# EAGLE library part TB6612FNG (library systas0)
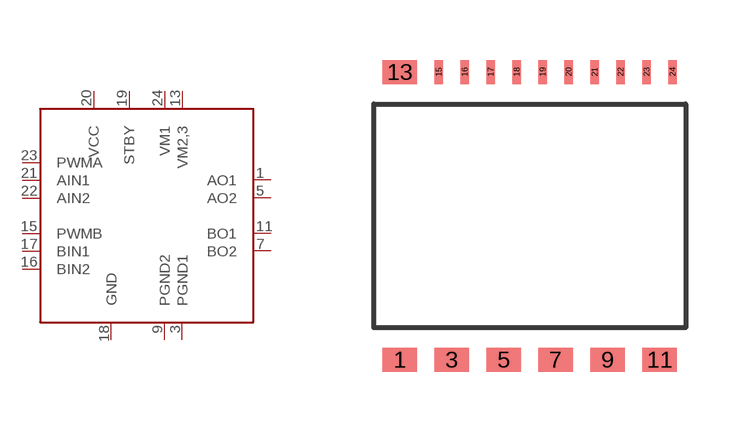
[diagram p19: symbol with the pads of TB6612FNG; footprint TB6612FNG]

Designator prefix -

## TB6612FNG  [TB6612FNG]
1  AO1
3  PGND1
5  AO2
7  BO2
9  PGND2
11  BO1
13  VM2,3
15  PWMB
16  BIN2
17  BIN1
18  GND
19  STBY
20  VCC
21  AIN1
22  AIN2
23  PWMA
24  VM1

## Footprint TB6612FNG (pad centres in mm)
smd 0.87 x 0.6: 1 -3.25,-3.6; 3 -1.95,-3.6; 5 -0.65,-3.6; 7 0.65,-3.6; 9 1.95,-3.6; 11 3.25,-3.6; 13 -3.25,3.6
smd 0.22 x 0.6: 15 -2.275,3.6; 16 -1.625,3.6; 17 -0.975,3.6; 18 -0.325,3.6; 19 0.325,3.6; 20 0.975,3.6; 21 1.625,3.6; 22 2.275,3.6; 23 2.925,3.6; 24 3.575,3.6